# Altium schematic symbol library Components - 18.11.25 - 13.14.SchLib: 1 symbol
Pins are listed as number, name and electrical type; pins without a type are passive.

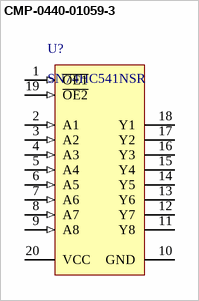
[diagram p0: symbol CMP-0440-01059-3]

## CMP-0440-01059-3
designator U?, comment SN74HC541NSR
Octal Buffers And Line Drivers With 3-State Outputs, NS0020A, LARGE T&R; Manufacturer: Texas Instruments; VCC(Max)(V): 6; tpd @ Nom Voltage(Max)(ns): 25; Output Type: CMOS; ICC @ Nom Voltage(Max)(mA): 0.08; Rating: Catalog; F @ Nom Voltage(Max)(Mhz): 28; VCC(Min)(V): 2; Generic Part Number: SN74HC541; PackageReference: NS0020A; PackageVersion: http://www.ti.com/lit/ml/msop002a/msop002a.pdf; DatasheetVersion: SCLS305C; Input Type: CMOS; Voltage(Nom)(V): 6; Bits(#): 6; Operating Temperature Range(C): -40 to 85
footprint NS0020A_L (SOIC,20-Leads,Body 12.9x5.6mm,Pitch 1.27mm,IPC High Density)
footprint NS0020A_M (SOIC,20-Leads,Body 12.9x5.6mm,Pitch 1.27mm,IPC Low Density)
footprint NS0020A_N (SOIC,20-Leads,Body 12.9x5.6mm,Pitch 1.27mm,IPC Medium Density)
pins: 1 ~{OE1} (in) "Output enable 1", 2 A1 (in) "A1 Input", 3 A2 (in) "A2 Input", 4 A3 (in) "A3 Input", 5 A4 (in) "A4 Input", 6 A5 (in) "A5 Input", 7 A6 (in) "A6 Input", 8 A7 (in) "A7 Input", 9 A8 (in) "A8 Input", 10 GND (power) "Ground pin", 11 Y8 (hiz) "Y8 Output", 12 Y7 (hiz) "Y7 Output", 13 Y6 (hiz) "Y6 Output", 14 Y5 (hiz) "Y5 Output", 15 Y4 (hiz) "Y4 Output", 16 Y3 (hiz) "Y3 Output", 17 Y2 (hiz) "Y2 Output", 18 Y1 (hiz) "Y1 Output", 19 ~{OE2} (in) "Output enable 2", 20 VCC (power) "Power pin"